# Altium footprint library 1735446-4.PcbLib: 2 footprints
Each footprint in its own frame and in the unit in brackets; x right, y up, seen from the top. Pads: shape width x height; smd on the part's side, far side on the other; paste and mask are expansions set on the pad; w line width, h text height; cw(c..) or ccw(c..) is an arc to the next point about the centre after c.
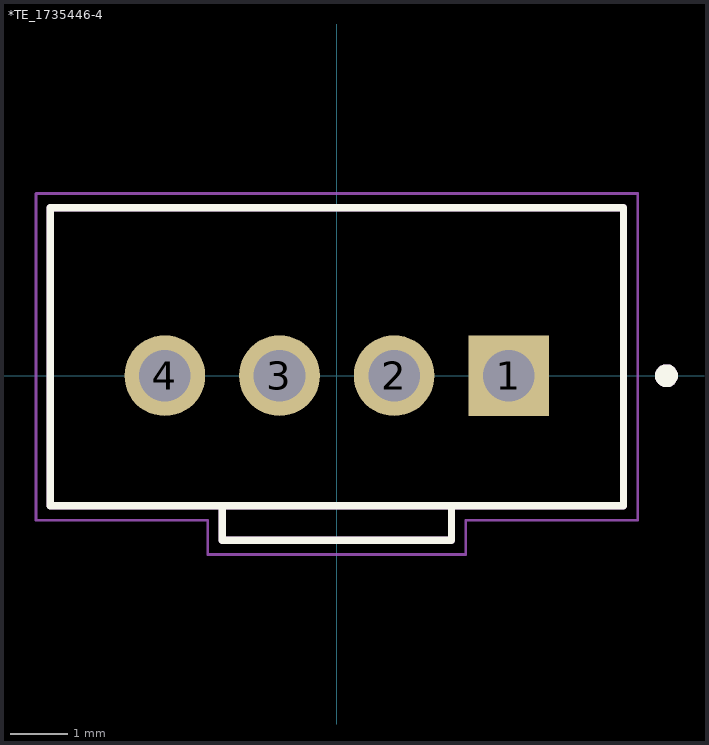
[diagram p0: the footprints below, top view; thin cyan lines are the x and y axes]

## *TE_1735446-4 [mm]
pads (4):
  rect 1.408x1.408 hole 0.9: 1(3,0)
  round 1.408 hole 0.9: 2(1,0) 3(-1,0) 4(-3,0)
Top Overlay:
  circle w0.2: c5.75,0 r0.1
  lines w0.127: -2,-2.27 2,-2.27 ; -2,-2.27 -5,-2.27 -5,2.93 5,2.93 5,-2.27 2,-2.27 ; -2,-2.27 -2,-2.87 2,-2.87 2,-2.27
Mechanical 4:
  circle w0.2: c5.75,0 r0.1
  circle w0.2: c5.75,0 r0.1
  lines w0.127: -5,-2.27 -2,-2.27 ; -5,-2.27 -5,2.93 ; -5,-2.27 -2,-2.27 ; -5,-2.27 -5,2.93 ; -5,2.93 5,2.93 ; -5,2.93 5,2.93 ; -2,-2.87 -2,-2.27 ; -2,-2.87 2,-2.87 ; -2,-2.87 -2,-2.27 ; -2,-2.87 2,-2.87 ; -2,-2.27 2,-2.27 ; -2,-2.27 2,-2.27 ; 2,-2.87 2,-2.27 ; 2,-2.87 2,-2.27 ; 2,-2.27 5,-2.27 ; 2,-2.27 5,-2.27 ; 5,-2.27 5,2.93 ; 5,-2.27 5,2.93
Mechanical 16:
  lines w0.05: -5.25,-2.52 -2.25,-2.52 -2.25,-3.12 2.25,-3.12 2.25,-2.52 5.25,-2.52 5.25,3.18 -5.25,3.18 -5.25,-2.52

## PCBComponent_1 [mm]